# EAGLE library part 625020230621 (library Wuerth_Elektronik_eiCan_05_Box_Header_IDC_Connectors_1_2)
WR-BHD 2.00mm Male SMT Box Header With Lever, 20 pins
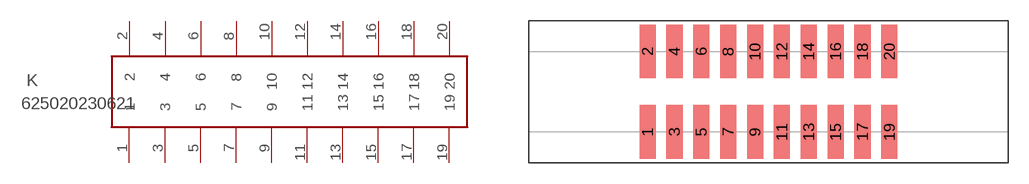
[diagram p59: symbol with the pads of 625020230621; footprint 625020230621]

Designator prefix K

## 625020230621  [625020230621]
1  1  pas
2  2  pas
3  3  pas
4  4  pas
5  5  pas
6  6  pas
7  7  pas
8  8  pas
9  9  pas
10  10  pas
11  11  pas
12  12  pas
13  13  pas
14  14  pas
15  15  pas
16  16  pas
17  17  pas
18  18  pas
19  19  pas
20  20  pas

## Footprint 625020230621 (pad centres in mm)
WR-BHD-2.00mm Male SMT Box Header With Lever,20 pins
smd 1.2 x 4: 1 -9,-3; 2 -9,3; 3 -7,-3; 4 -7,3; 5 -5,-3; 6 -5,3; 7 -3,-3; 8 -3,3; 9 -1,-3; 10 -1,3; 11 1,-3; 12 1,3; 13 3,-3; 14 3,3; 15 5,-3; 16 5,3; 17 7,-3; 18 7,3; 19 9,-3; 20 9,3